# EAGLE library part APU_SRAM (library snes_mb)
32Kx8 SRAM for APU MCM51L832F12
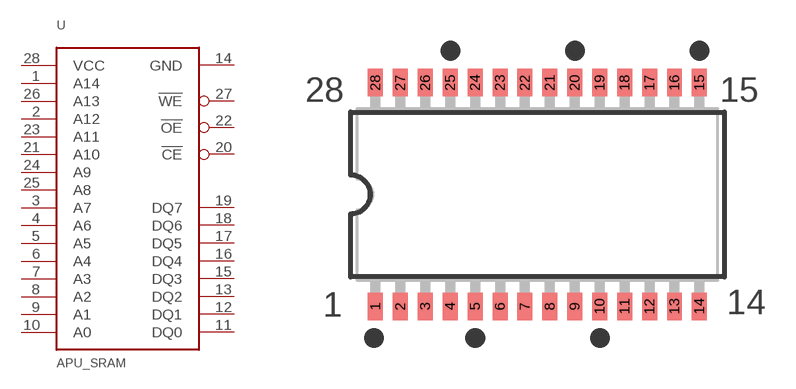
[diagram p9: symbol with the pads of SO28W; footprint SO28W]

Designator prefix U

## APU_SRAM  [SO28W]
1  A14
2  A12
3  A7
4  A6
5  A5
6  A4
7  A3
8  A2
9  A1
10  A0
11  DQ0
12  DQ1
13  DQ2
14  GND  pwr
15  DQ3
16  DQ4
17  DQ5
18  DQ6
19  DQ7
20  !CE
21  A10
22  !OE
23  A11
24  A9
25  A8
26  A13
27  !WE
28  VCC  pwr

## Footprint SO28W (pad centres in mm)
smd 0.762 x 1.4: 1 -8.255,-5.7; 2 -6.985,-5.7; 3 -5.715,-5.7; 4 -4.445,-5.7; 5 -3.175,-5.7; 6 -1.905,-5.7; 7 -0.635,-5.7; 8 0.635,-5.7; 9 1.905,-5.7; 10 3.175,-5.7; 11 4.445,-5.7; 12 5.715,-5.7; 13 6.985,-5.7; 14 8.255,-5.7; 15 8.255,5.7; 16 6.985,5.7; 17 5.715,5.7; 18 4.445,5.7; 19 3.175,5.7; 20 1.905,5.7; 21 0.635,5.7; 22 -0.635,5.7; 23 -1.905,5.7; 24 -3.175,5.7; 25 -4.445,5.7; 26 -5.715,5.7; 27 -6.985,5.7; 28 -8.255,5.7